# EAGLE library part NCP382HD15AAR2G (library SHC)
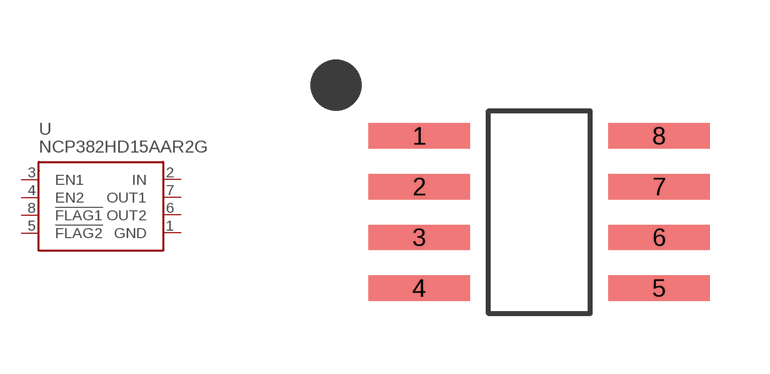
[diagram p25: symbol with the pads of SO-8; footprint SO-8]

Designator prefix -

## NCP382HD15AAR2G  [SO-8]
1  GND
2  IN
3  EN1
4  EN2
5  !FLAG2
6  OUT2
7  OUT1
8  !FLAG1

## Footprint SO-8 (pad centres in mm)
smd 2.54 x 0.635: 1 -3,1.905; 2 -3,0.635; 3 -3,-0.635; 4 -3,-1.905; 5 3,-1.905; 6 3,-0.635; 7 3,0.635; 8 3,1.905